# EAGLE library part X4051 (library be_muxer)
drawn: Mario Blunk
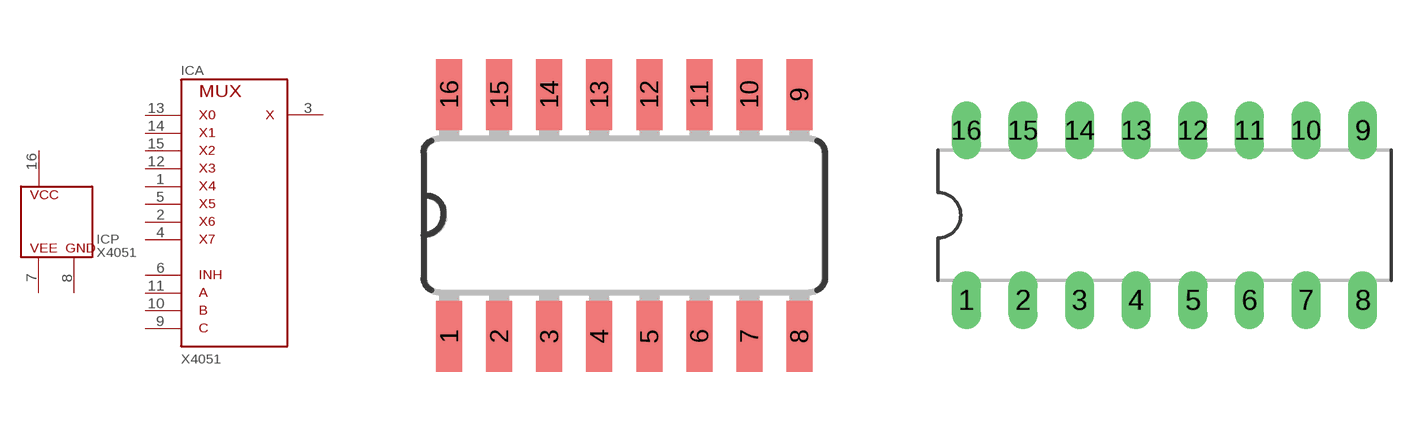
[diagram p0: symbol with the pads of S_SO16; footprints S_SO16, T_NDIP16]

Designator prefix IC; gates A=4051 P=PWR+VEE

## X4051D (BOM: YES; COMMISSIONED: 2015-02-05; PART_CODE_BEL: IC_PAC_S_SO16_VAL_x4051D)  [S_SO16]
1  A:X4  pas
2  A:X6  pas
3  A:X  pas
4  A:X7  pas
5  A:X5  pas
6  A:INH  in
7  P:VEE  pwr
8  P:GND  pwr
9  A:C  in
10  A:B  in
11  A:A  in
12  A:X3  pas
13  A:X0  pas
14  A:X1  pas
15  A:X2  pas
16  P:VCC  pwr

## X4051N  [T_NDIP16]
Pads as for S_SO16

## Footprint S_SO16 (pad centres in mm)
drawn: Mario Blunk date: 2015-02-04
smd 0.66 x 1.8: 1 -4.445,-3.073; 2 -3.175,-3.073; 3 -1.905,-3.073; 4 -0.635,-3.073; 5 0.635,-3.073; 6 1.905,-3.073; 7 3.175,-3.073; 8 4.445,-3.073; 9 4.445,3.073; 10 3.175,3.073; 11 1.905,3.073; 12 0.635,3.073; 13 -0.635,3.073; 14 -1.905,3.073; 15 -3.175,3.073; 16 -4.445,3.073

## Footprint T_NDIP16 (pad centres in mm)
edited: Mario Blunk / Blunk electronic date: 2015-02-03
drill 0.8 long: 1 -8.89,-3.81; 2 -6.35,-3.81; 3 -3.81,-3.81; 4 -1.27,-3.81; 5 1.27,-3.81; 6 3.81,-3.81; 7 6.35,-3.81; 8 8.89,-3.81; 9 8.89,3.81; 10 6.35,3.81; 11 3.81,3.81; 12 1.27,3.81; 13 -1.27,3.81; 14 -3.81,3.81; 15 -6.35,3.81; 16 -8.89,3.81